# Altium schematic symbol library connectors.SchLib: 3 symbols
Pins are listed as number, name and electrical type; pins without a type are passive.

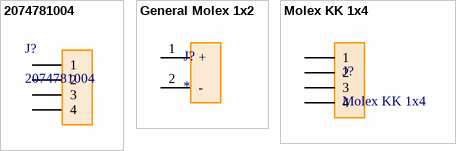
[diagram p0: symbols 2074781004 to Molex KK 1x4]

## 2074781004
designator J?
Molex 1x4 11A Connector; Vendor: Molex Connector Corporation; Built_By: Molex_Team; SourceLibrary: Molex_2020-09-09; Manufacturer_Part_Number: 2074781004; Copyright: Copyright (C) 2018 Accelerated Designs. All rights reserved; RefDes: RefDes; Type: DEV
footprint CON_2074781004_MOL
pins: 1, 2, 3, 4

## General Molex 1x2
designator J?
footprint MOLEX_436500200 - duplicate
pins: 1 +, 2 -

## Molex KK 1x4
designator J?
1x4 Molex KK Connector (CAN)
footprint Molex KK 4x1
pins: 1, 2, 3, 4